# Altium integrated library Xilinx Virtex-E.IntLib: 288 symbols (part 72 of 73)
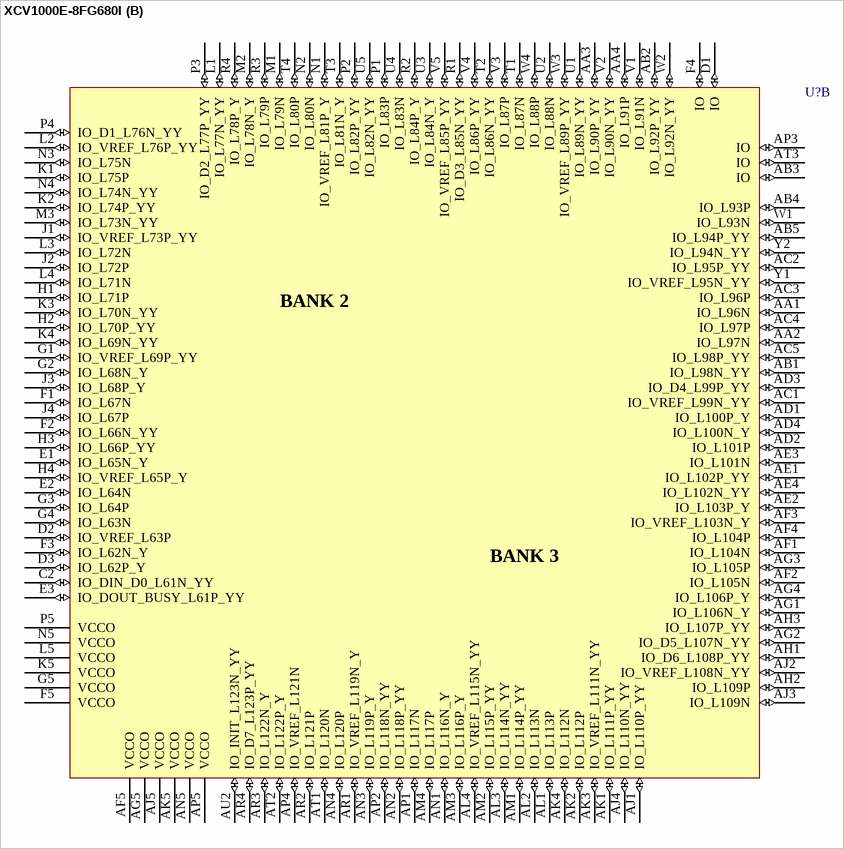
[diagram p456: symbol XCV1000E-8FG680I]

## XCV1600E-8FG1156C
designator U?
Virtex-E 1.8V FPGA, 1156-Ball FBGA, Commercial Grade; PackageDocument: ver1.1, Apr-2001; Note: Solder pads are defined by the copper, i.e. non-soldermask defined (NSMD); Published: 19-Sep-2001; LatestRevisionDate: 17-Jul-2002; LatestRevisionNote: Re-released for DXP Platform.; DatasheetDocument: Mar-2003; PackageReference: FG1156; Publisher: Altium Limited; Code_JEDEC: MS-034-AAR; Code_IPC: PBGA 35X35 FE1156
footprint FG1156 (1156-Ball Fine Pitch Plastic Ball Grid Array (FG1156))
3D model XCV1600E-FG1156 (1156-Ball Fine Pitch Plastic Ball Grid Array (FG1156))
signal-integrity model XCV1600E_FG1156 (Virtex-E)
part A pins: A4 IO_L3N_Y (io), A5 IO_L6N_YY (io), A6 VCCO_0 (power), A8 IO_L15N (io), A9 IO_L17P_YY (io), A10 IO_L18P_Y (io), A11 IO_L21N_YY (io), A12 IO_L24P_Y (io), A13 IO_VREF_L27N_YY (io), A14 IO_L31N (io), A15 IO_L36N_Y (io), A16 IO_L37P (io), A17 IO_L40P_Y (io), B4 IO (io), B5 IO_L7P_Y (io), B6 IO_L9N (io), B7 IO_L11P_YY (io), B8 IO_L13P_Y (io), B9 IO (io), B10 IO (io), B11 IO_L21P_YY (io), B12 IO_L25N_Y (io), B13 IO_L27P_YY (io), B14 IO_L32P_YY (io), B15 IO_L35P_Y (io), B16 IO_L39P_YY (io), B17 IO_L41P_Y (io), C5 IO_L1N_Y (io), C6 IO_L4N_YY (io), C7 IO_L10P_YY (io), C8 IO_L12P (io), C9 IO_L16N_YY (io), C10 IO_L19P_Y (io), C12 IO_L23P_Y (io), C13 IO_L29N_Y (io), C14 VCCO_0 (power), C16 IO_VREF_L39N_YY (io), C17 IO_LVDS_DLL_L42N (io), D6 IO_L2P_Y (io), D7 IO_L7N_Y (io), D8 IO_VREF_L11N_YY (io), D9 NC, D10 IO_VREF_L17N_YY (io), D11 IO_L22P_Y (io), D12 IO_L26N_YY (io), D13 IO_L30P_Y (io), D14 IO_L33P_YY (io), D15 IO_L34P (io), D16 IO (io), E6 IO_VREF_L2N_Y (io), E7 NC, E8 IO_L8P_Y (io), E9 IO_L13N_Y (io), E10 VCCO_0 (power), E11 NC, E12 IO_L22N_Y (io), E13 NC, E14 IO_L32N_YY (io), E15 IO_L36P_Y (io), E16 NC, E17 GCK3 (in), F7 IO_L0N_Y (io), F8 IO_L5P_YY (io), F9 IO_L9P (io), F10 IO_L15P (io), F11 IO_L18N_Y (io), F13 IO_L26P_YY (io), F14 IO_L29P_Y (io), F15 IO_L35N_Y (io), F16 IO_L38N_YY (io), F17 NC, G8 IO_L3P_Y (io), G9 IO_VREF_L5N_YY (io), G10 IO_L10N_YY (io), G11 IO_L14P_Y (io), G12 IO_L20P_YY (io), G13 IO_L23N_Y (io), G14 IO_L28P_YY (io), G15 IO_VREF_L33N_YY (io), G16 IO_L37N (io), G17 IO_VREF_L41N_Y (io), H9 IO_L0P_Y (io), H10 IO_L6P_YY (io), H11 IO_L12N (io), H12 IO_L16P_YY (io), H13 IO_VREF_L20N_YY (io), H14 IO_L25P_Y (io), H15 IO_L30N_Y (io), H17 IO_L40N_Y (io), J10 IO_L1P_Y (io), J11 IO_L4P_YY (io), J12 NC, J13 NC, J14 NC, J15 IO_L28N_YY (io), J16 IO_L34N (io), J17 IO_L38P_YY (io), K11 NC, K12 IO_L8N_Y (io), K13 IO_L14N_Y (io), K14 IO_L19N_Y (io), K15 IO_L24N_Y (io), K16 IO_L31P (io), L12 VCCO_0 (power), L13 VCCO_0 (power), L14 VCCO_0 (power), L15 VCCO_0 (power), L16 VCCO_0 (power), L17 VCCO_0 (power), M13 VCCO_0 (power), M14 VCCO_0 (power), M15 VCCO_0 (power), M16 VCCO_0 (power), M17 VCCO_0 (power)
part B pins: A18 IO (io), A19 IO_VREF_L45P_YY (io), A20 IO_L49N_Y (io), A21 IO_L52P_YY (io), A22 IO_L57N_YY (io), A23 IO_L60P_Y (io), A24 IO_L64N_YY (io), A25 IO_L66N_Y (io), A26 IO_L67N_YY (io), A27 IO_L71P_Y (io), A29 VCCO_1 (power), A30 IO_L79N_YY (io), A31 IO_WRITE_L85N_YY (io), B18 NC, B19 IO_L45N_YY (io), B20 IO_L50N (io), B21 IO_L55N_Y (io), B22 IO_VREF_L57P_YY (io), B23 IO_L61P_Y (io), B24 IO (io), B25 IO (io), B26 IO_L68P_YY (io), B27 IO_L72N (io), B28 IO_L74P_YY (io), B29 IO_L80P_YY (io), B30 IO_L83P_Y (io), B31 IO_L84N (io), C18 IO_VREF_L43P_Y (io), C19 IO_L46P_YY (io), C21 VCCO_1 (power), C22 IO_L58P_YY (io), C23 IO_L62N_Y (io), C25 IO_VREF_L67P_YY (io), C26 IO_L70N_Y (io), C27 IO_VREF_L73P_YY (io), C28 IO_L77P_Y (io), C29 IO_L81P_Y (io), D17 GCK2 (in), D18 NC, D19 IO (io), D20 IO_L51N_YY (io), D21 IO_L54N_Y (io), D22 IO_L59N_Y (io), D23 IO_L63N_YY (io), D24 IO_L65P_Y (io), D25 NC, D26 NC, D27 IO_L76N_Y (io), D28 NC, D29 NC, D30 IO_CS_L85P_YY (io), E19 IO_L47P (io), E20 IO_VREF_L51P_YY (io), E21 IO_L53N (io), E22 NC, E23 NC, E24 IO_L66P_Y (io), E25 VCCO_1 (power), E26 IO_L73N_YY (io), E27 IO_L78N_YY (io), E28 IO_L82N_Y (io), E29 IO_L84P (io), F18 IO_L44P_Y (io), F19 IO_L47N (io), F20 IO_L50P (io), F21 IO_L56P_YY (io), F22 IO_L61N_Y (io), F24 IO_L68N_YY (io), F25 IO_L69P (io), F26 IO_L76P_Y (io), F27 IO_L81N_Y (io), F28 IO_VREF_L82P_Y (io), G18 IO_L43N_Y (io), G19 IO_L48N_Y (io), G20 IO_L49P_Y (io), G21 IO_L56N_YY (io), G22 IO_L59P_Y (io), G23 NC, G24 IO_L71N_Y (io), G25 IO_L72P (io), G26 IO_L77N_Y (io), G27 IO_L80N_YY (io), H18 IO_L44N_Y (io), H20 IO_L52N_YY (io), H21 IO_L55P_Y (io), H22 IO_L62P_Y (io), H23 IO_L65N_Y (io), H24 IO_L70P_Y (io), H25 IO_L75P (io), H26 IO_VREF_L79P_YY (io), J18 IO_LVDS_DLL_L42P (io), J19 IO_L48P_Y (io), J20 IO_L53P (io), J21 IO_L58N_YY (io), J22 IO_VREF_L64P_YY (io), J23 NC, J24 IO_L74N_YY (io), J25 IO_L78P_YY (io), K19 IO_L46N_YY (io), K20 IO_L54P_Y (io), K21 IO_L60N_Y (io), K22 IO_L63P_YY (io), K23 IO_L69N (io), K24 IO_L75N (io), L18 VCCO_1 (power), L19 VCCO_1 (power), L20 VCCO_1 (power), L21 VCCO_1 (power), L22 VCCO_1 (power), L23 VCCO_1 (power), L25 IO_L83N_Y (io), M18 VCCO_1 (power), M19 VCCO_1 (power), M20 VCCO_1 (power), M21 VCCO_1 (power), M22 VCCO_1 (power)
part C pins: D32 IO_DOUT_BUSY_L86P_YY (io), D33 IO_L91N_Y (io), D34 IO_VREF_L92P_Y (io), E31 IO_L87P_Y (io), E32 IO_VREF_L89P_Y (io), E33 IO_L93N_YY (io), E34 IO_L97N_Y (io), F30 IO_L87N_Y (io), F31 NC, F32 IO_L88N_Y (io), F33 IO_L96N_Y (io), F34 VCCO_2 (power), G29 IO_L88P_Y (io), G30 IO_L89N_Y (io), G31 IO_L90N (io), G32 IO_L98N_YY (io), G33 IO_L100N_YY (io), H28 IO_L94P_YY (io), H29 IO_L92N_Y (io), H30 IO_L94N_YY (io), H31 IO_VREF_L98P_YY (io), H32 IO_L95P_Y (io), H33 IO_L102N (io), H34 IO_L101P_Y (io), J27 IO_DIN_D0_L86N_YY (io), J28 IO_L93P_YY (io), J29 IO_L101N_Y (io), J30 IO_L100P_YY (io), J31 IO_L99N_YY (io), J32 IO (io), J33 IO_L104N_YY (io), J34 IO_L103N_Y (io), K27 NC, K28 IO_L95N_Y (io), K29 IO_L103P_Y (io), K30 VCCO_2 (power), K31 NC, K33 IO_VREF_L107P_YY (io), K34 IO_L105N_YY (io), L26 IO_L91P_Y (io), L27 IO_L96P_Y (io), L28 NC, L29 IO_VREF_L104P_YY (io), L30 NC, L31 IO_L109P_Y (io), L33 IO_L109N_Y (io), L34 IO_L106N_Y (io), M24 VCCO_2 (power), M25 IO_L90P (io), M26 IO_L97P_Y (io), M27 IO_L102P (io), M28 IO_L105P_YY (io), M30 IO_D2 (io), M31 IO_L111P (io), M32 NC, M33 IO_L110N_Y (io), M34 IO_L108N_Y (io), N23 VCCO_2 (power), N24 VCCO_2 (power), N25 IO_L99P_YY (io), N26 IO (io), N27 IO_L106P_Y (io), N28 NC, N29 IO_VREF_L113P_Y (io), N30 IO_L112P_Y (io), N31 IO_VREF_L119P_YY (io), N32 IO_D3_L119N_YY (io), N33 IO_L113N_Y (io), N34 IO_L114N_YY (io), P23 VCCO_2 (power), P24 VCCO_2 (power), P25 NC, P26 IO_D1_L107N_YY (io), P27 IO_L110P_Y (io), P28 IO_L112N_Y (io), P29 IO_L116P_Y (io), P30 IO_L120P_YY (io), P31 IO_L116N_Y (io), P32 VCCO_2 (power), P33 IO_L117P_Y (io), P34 IO_L115P_YY (io), R23 VCCO_2 (power), R24 VCCO_2 (power), R25 IO_L108P_Y (io), R26 IO_L111N (io), R27 IO_L115N_YY (io), R28 IO_L118N_Y (io), R29 IO_L121P_YY (io), R30 IO_L122P_Y (io), R31 IO_L123N (io), R33 IO_L120N_YY (io), R34 IO_L118P_Y (io), T23 VCCO_2 (power), T24 VCCO_2 (power), T25 IO_L114P_YY (io), T26 IO_L117N_Y (io), T28 IO_L123P (io), T29 IO_L124P_Y (io), T30 IO_L122N_Y (io), T31 IO_VREF_L125P_YY (io), T32 IO_L126N_YY (io), T33 IO_L125N_YY (io), T34 IO_L121N_YY (io), U23 VCCO_2 (power), U24 VCCO_2 (power), U26 NC, U27 IO_L124N_Y (io), U28 IO_L126P_YY (io), U29 IO_VREF_L127P_Y (io), U30 IO (io), U31 IO_L128N_YY (io), U32 NC, U33 IO_L127N_Y (io), U34 IO (io), V33 IO_L128P_YY (io)
part D pins: AA23 VCCO_3 (power), AA24 VCCO_3 (power), AA25 IO_L151P_Y (io), AA26 IO_L147P_Y (io), AA27 IO_L142P_YY (io), AA28 IO_L144P_Y (io), AA29 IO_L142N_YY (io), AA30 IO_L140P_Y (io), AA31 IO_L141N_YY (io), AA32 VCCO_3 (power), AA33 IO_D4_L137P_YY (io), AA34 IO_L136P_YY (io), AB23 VCCO_3 (power), AB24 VCCO_3 (power), AB25 NC, AB26 NC, AB27 IO_D5_L149N_YY (io), AB28 IO_L148N_Y (io), AB29 IO_VREF_L143N_Y (io), AB30 IO_L146P_Y (io), AB31 NC, AB32 IO_L143P_Y (io), AB33 IO_L139N_Y (io), AB34 IO_L138N_Y (io), AC24 VCCO_3 (power), AC25 IO_L160P_Y (io), AC26 IO_L158P_YY (io), AC27 IO_L155P_Y (io), AC28 IO_L154P_Y (io), AC30 IO_VREF_L150N_YY (io), AC31 NC, AC32 IO_L147N_Y (io), AC33 IO_L146N_Y (io), AC34 IO_L144N_Y (io), AD25 IO_L164P_YY (io), AD26 IO_L159P_YY (io), AD27 IO_L162N_Y (io), AD28 IO_L156N_Y (io), AD29 IO_L152N_YY (io), AD30 IO_L157P_YY (io), AD31 IO_L153P_YY (io), AD33 IO_L148P_Y (io), AD34 IO_L145N (io), AE26 IO_L166P_Y (io), AE27 IO_L164N_YY (io), AE28 IO_L161P_Y (io), AE29 IO_L156P_Y (io), AE30 VCCO_3 (power), AE31 IO_L152P_YY (io), AE32 IO_L151N_Y (io), AE33 IO_D6_L150P_YY (io), AE34 IO_L149P_YY (io), AF27 IO_VREF_L168N_Y (io), AF28 IO_L167P (io), AF29 IO_L163P_YY (io), AF30 IO_VREF_L159N_YY (io), AF31 IO_L154N_Y (io), AF32 IO_L155N_Y (io), AF33 IO_VREF_L153N_YY (io), AF34 IO (io), AG29 IO_L169P_Y (io), AG30 IO_L162P_Y (io), AG31 NC, AG32 IO_L157N_YY (io), AG33 NC, AG34 IO (io), AH29 NC, AH30 IO_L170N_Y (io), AH31 IO_VREF_L165N_Y (io), AH32 IO_L160N_Y (io), AH33 IO_L158N_YY (io), AJ30 NC, AJ31 IO_L168P_Y (io), AJ32 IO_L169N_Y (io), AJ33 IO_L165P_Y (io), AJ34 VCCO_3 (power), AK31 IO_INIT_L171N_YY (io), AK32 IO_D7_L171P_YY (io), AK33 IO_L170P_Y (io), AK34 IO_L163N_YY (io), AL32 IO_L167N (io), AL33 IO_L166N_Y (io), AL34 IO_L161N_Y (io), V23 VCCO_3 (power), V24 VCCO_3 (power), V26 IO_L129P_Y (io), V27 NC, V28 IO_L130N_YY (io), V29 IO_L132P_Y (io), V30 IO_VREF_L129N_Y (io), V31 IO (io), V32 NC, V34 IO (io), W23 VCCO_3 (power), W24 VCCO_3 (power), W25 IO_L138P_Y (io), W26 IO_L134P_Y (io), W28 IO_L134N_Y (io), W29 IO_L133P (io), W30 IO_VREF_L131N_YY (io), W31 IO_L136N_YY (io), W32 IO_L131P_YY (io), W33 IO (io), W34 IO_L130P_YY (io), Y23 VCCO_3 (power), Y24 VCCO_3 (power), Y25 IO_L145P (io), Y26 IO_L140N_Y (io), Y27 IO_L141P_YY (io), Y28 IO_L139P_Y (io), Y29 IO_VREF_L137N_YY (io), Y30 IO_L135N_YY (io), Y31 IO_L135P_YY (io), Y33 IO_L133N (io), Y34 IO_L132N_Y (io)
part E pins: AC18 VCCO_4 (power), AC19 VCCO_4 (power), AC20 VCCO_4 (power), AC21 VCCO_4 (power), AC22 VCCO_4 (power), AD18 VCCO_4 (power), AD19 VCCO_4 (power), AD20 VCCO_4 (power), AD21 VCCO_4 (power), AD22 VCCO_4 (power), AD23 VCCO_4 (power), AE19 IO_VREF_L206P_YY (io), AE20 IO_L202N_Y (io), AE21 NC, AE22 IO_L191P_Y (io), AE23 IO_L185P (io), AE24 IO_L179P_YY (io), AF18 IO_L213P_Y (io), AF19 IO_L210P (io), AF20 IO_L204N (io), AF21 IO_L198N_Y (io), AF22 IO_VREF_L193P_YY (io), AF23 IO_L189P_YY (io), AF24 IO_L182N (io), AF25 IO_L177P_YY (io), AG18 IO (io), AG20 IO_L207P_Y (io), AG21 IO_L201P_YY (io), AG22 IO_L195P_Y (io), AG23 IO (io), AG24 IO_L188P (io), AG25 IO_L181P_Y (io), AG26 IO_L176P_Y (io), AH18 GCK0 (in), AH19 IO_L211N_YY (io), AH20 IO_L208P_Y (io), AH21 IO_L203P_Y (io), AH22 IO_L197P_Y (io), AH23 IO_L192N_Y (io), AH24 NC, AH25 NC, AH26 IO_L180N_Y (io), AH27 IO_L174P_Y (io), AJ18 IO_VREF_L214P_Y (io), AJ19 IO_VREF_L212P_YY (io), AJ20 IO_L209N_Y (io), AJ21 IO_L201N_YY (io), AJ22 IO_L199N_YY (io), AJ24 IO_VREF_L190P_YY (io), AJ25 IO_L187N_Y (io), AJ26 IO_L183P_YY (io), AJ27 IO_L180P_Y (io), AJ28 NC, AK18 NC, AK19 NC, AK20 IO_L208N_Y (io), AK21 IO_L205P_YY (io), AK22 IO_VREF_L200P_YY (io), AK23 IO_L194N_YY (io), AK24 IO_L192P_Y (io), AK25 VCCO_4 (power), AK26 IO_VREF_L184P_YY (io), AK27 IO_L181N_Y (io), AK28 IO_L175N_Y (io), AK29 IO_L172N_YY (io), AL18 IO_L214N_Y (io), AL20 IO_L207N_Y (io), AL21 IO_L203N_Y (io), AL22 IO_L199P_YY (io), AL23 IO_L198P_Y (io), AL24 IO_L194P_YY (io), AL25 IO (io), AL26 IO_L186P_Y (io), AL27 NC, AL28 IO_L178N_YY (io), AL29 IO_VREF_L178P_YY (io), AL30 NC, AM18 IO_LVDS_DLL_L215P (io), AM19 IO_L211P_YY (io), AM21 VCCO_4 (power), AM22 IO_L200N_YY (io), AM23 IO_L196N_Y (io), AM25 IO_L191N_Y (io), AM26 IO_L189N_YY (io), AM27 IO_L185N (io), AM28 IO_L182P (io), AM29 IO_L177N_YY (io), AM30 IO_VREF_L175P_Y (io), AN18 IO (io), AN19 IO_L209P_Y (io), AN20 IO_L206N_YY (io), AN21 IO_L204P (io), AN22 NC, AN23 IO_L195N_Y (io), AN24 NC, AN25 IO_L190N_YY (io), AN26 IO_L187P_Y (io), AN27 IO_L184N_YY (io), AN28 IO_L179N_YY (io), AN29 IO_L176N_Y (io), AN30 IO_L174N_Y (io), AN31 IO_L173N_Y (io), AP17 IO_L213N_Y (io), AP18 IO_L212N_YY (io), AP19 IO_L210N (io), AP20 IO_L205N_YY (io), AP21 IO_L202P_Y (io), AP22 IO_L197N_Y (io), AP23 IO_L196P_Y (io), AP24 IO_L193N_YY (io), AP25 IO_L188N (io), AP26 IO_L186N_Y (io), AP27 IO_L183N_YY (io), AP29 VCCO_4 (power), AP30 IO_L173P_Y (io), AP31 IO_L172P_YY (io)
part F pins: AC13 VCCO_5 (power), AC14 VCCO_5 (power), AC15 VCCO_5 (power), AC16 VCCO_5 (power), AC17 VCCO_5 (power), AD12 VCCO_5 (power), AD13 VCCO_5 (power), AD14 VCCO_5 (power), AD15 VCCO_5 (power), AD16 VCCO_5 (power), AD17 VCCO_5 (power), AE11 IO_L253P_YY (io), AE12 IO_L248P (io), AE13 IO_L241P_YY (io), AE14 IO_L229P_YY (io), AE15 IO_L229N_YY (io), AE16 IO_L223N_Y (io), AF10 IO_L254P_Y (io), AF11 IO_L244P_Y (io), AF12 IO_L242P (io), AF13 IO_L233P_Y (io), AF14 IO_L234P_Y (io), AF15 IO_L227N_Y (io), AF16 IO_L222N_Y (io), AF17 NC, AG9 IO_VREF_L255N_Y (io), AG10 IO_L250P_Y (io), AG11 IO_L245N_Y (io), AG12 NC, AG13 IO_VREF_L230N_YY (io), AG14 IO_L228P_Y (io), AG15 IO_L226N (io), AG17 IO_L217N_Y (io), AH8 IO_L256P_Y (io), AH9 IO_L251N_YY (io), AH10 IO_L247P_YY (io), AH11 IO_L243N_Y (io), AH12 IO (io), AH13 IO_L235N_Y (io), AH14 IO_L231P_YY (io), AH15 IO_L225P_YY (io), AH16 IO_L221N_Y (io), AH17 IO_L216P_Y (io), AJ7 IO_L257N_Y (io), AJ8 IO_VREF_L252N_YY (io), AJ9 IO_L248N (io), AJ10 NC, AJ11 NC, AJ13 IO_L237P_YY (io), AJ14 IO_L232P_Y (io), AJ15 IO_VREF_L224N_YY (io), AJ16 IO_L219P_YY (io), AJ17 IO_L217P_Y (io), AK6 IO_L258N_YY (io), AK7 NC, AK8 IO_L251P_YY (io), AK9 IO_VREF_L246N_YY (io), AK10 VCCO_5 (power), AK11 IO_L239N_Y (io), AK12 IO_L238P_Y (io), AK13 NC, AK14 IO_L226P (io), AK15 IO_L224P_YY (io), AK16 IO_L220P (io), AL6 IO_L255P_Y (io), AL7 IO_L249N_Y (io), AL8 IO_L246P_YY (io), AL9 IO_L243P_Y (io), AL10 IO_VREF_L240N_YY (io), AL11 IO_L240P_YY (io), AL12 IO_L236N_YY (io), AL13 NC, AL14 IO_L232N_Y (io), AL15 IO_L221P_Y (io), AL16 IO_VREF_L218N_YY (io), AL17 IO_LVDS_DLL_L215N (io), AL19 GCK1 (in), AM4 NC, AM5 IO_L258P_YY (io), AM6 IO_L254N_Y (io), AM7 IO_L249P_Y (io), AM8 IO_L245P_Y (io), AM9 IO_L241N_YY (io), AM10 IO_L238N_Y (io), AM12 IO_L236P_YY (io), AM13 IO_L227P_Y (io), AM14 VCCO_5 (power), AM16 IO_L219N_YY (io), AM17 IO_VREF_L216N_Y (io), AN4 IO_L257P_Y (io), AN5 IO_L253N_YY (io), AN6 IO_L250N_Y (io), AN7 IO_L247N_YY (io), AN8 IO_L244N_Y (io), AN9 IO (io), AN10 NC, AN11 IO_L235P_Y (io), AN12 IO_L233N_Y (io), AN13 IO_L230P_YY (io), AN14 IO_L225N_YY (io), AN15 IO_L222P_Y (io), AN16 IO (io), AN17 NC, AP4 IO_L256N_Y (io), AP5 IO_L252P_YY (io), AP6 VCCO_5 (power), AP8 IO_L242N (io), AP9 IO_L239P_Y (io), AP10 IO_VREF_L237N_YY (io), AP11 IO_L234N_Y (io), AP12 IO_L231N_YY (io), AP13 IO_L228N_Y (io), AP14 IO_L223P_Y (io), AP15 IO_L220N (io), AP16 IO_L218P_YY (io)
part G pins: AA1 IO_L287P_Y (io), AA2 IO_L289N_YY (io), AA3 VCCO_6 (power), AA4 IO_VREF_L287N_Y (io), AA5 IO_L290P_Y (io), AA6 IO_L290N_Y (io), AA7 IO_L286P_Y (io), AA8 IO_L284N_Y (io), AA9 IO_L282N_Y (io), AA10 NC, AA11 VCCO_6 (power), AA12 VCCO_6 (power), AB1 IO_L285N (io), AB2 IO_L286N_Y (io), AB3 IO_L291N_Y (io), AB4 IO_L288P_YY (io), AB5 NC, AB6 IO_L284P_Y (io), AB7 NC, AB8 IO_VREF_L280N_YY (io), AB9 NC, AB10 IO_L275N (io), AB11 VCCO_6 (power), AB12 VCCO_6 (power), AC1 IO_L280P_YY (io), AC2 IO_L281P_YY (io), AC3 IO_L282P_Y (io), AC4 IO_L283N_Y (io), AC5 IO_L281N_YY (io), AC7 IO_L278N_YY (io), AC8 IO_L276N_Y (io), AC9 IO_L272N_YY (io), AC10 IO_L267N_YY (io), AC11 VCCO_6 (power), AD1 IO_L278P_YY (io), AD2 IO_L279P_Y (io), AD4 IO_L283P_Y (io), AD5 IO_VREF_L277N_YY (io), AD6 IO_L279N_Y (io), AD7 NC, AD8 NC, AD9 IO_L266N_YY (io), AD10 IO_L261N_Y (io), AE1 IO_L276P_Y (io), AE2 IO (io), AE3 IO_L277P_YY (io), AE4 IO (io), AE5 VCCO_6 (power), AE6 IO_L273N_YY (io), AE7 IO_L270N_Y (io), AE8 IO_L269N_Y (io), AE9 IO_L260N_Y (io), AF1 IO_L274N_Y (io), AF2 IO_L275P (io), AF3 IO_L273P_YY (io), AF4 IO_L274P_Y (io), AF5 IO_L268P_Y (io), AF6 IO_VREF_L271N_YY (io), AF7 IO_L264N_Y (io), AF8 IO_L259P_YY (io), AG1 IO_L271P_YY (io), AG2 IO_L270P_Y (io), AG3 IO_L269P_Y (io), AG4 IO_L272P_YY (io), AG5 IO_L265P_Y (io), AG6 IO_L263N (io), AH2 IO_L267P_YY (io), AH3 IO_L268N_Y (io), AH4 IO_L262P_Y (io), AH5 NC, AH6 IO_L259N_YY (io), AJ1 VCCO_6 (power), AJ2 IO_L266P_YY (io), AJ3 IO_VREF_L265N_Y (io), AJ4 NC, AK1 IO_L263P (io), AK2 IO_L264P_Y (io), AK3 IO_L260P_Y (io), AL1 IO_VREF_L262N_Y (io), AL2 IO_L261P_Y (io), T1 IO (io), U1 IO_L301P_Y (io), U2 IO_L300P_YY (io), V1 IO_L299P_YY (io), V2 IO (io), V3 IO (io), V5 NC, V6 IO_VREF_L301N_Y (io), V7 IO_L300N_YY (io), V8 NC, V9 IO_L298N_Y (io), V11 VCCO_6 (power), V12 VCCO_6 (power), W1 IO_L296N_Y (io), W2 IO_L294P_YY (io), W3 IO_L297P_Y (io), W4 IO_L298P_Y (io), W5 IO_VREF_L299N_YY (io), W6 IO_L297N_Y (io), W7 IO_L295N_YY (io), W9 IO_L294N_YY (io), W10 IO_L292P_Y (io), W11 VCCO_6 (power), W12 VCCO_6 (power), Y1 IO_L292N_Y (io), Y2 IO_L293P_YY (io), Y4 IO_L295P_YY (io), Y5 IO_VREF_L293N_YY (io), Y6 IO_L296P_Y (io), Y7 IO_L291P_Y (io), Y8 IO_L289P_YY (io), Y9 IO_L288N_YY (io), Y10 IO_L285P (io), Y11 VCCO_6 (power), Y12 VCCO_6 (power)
part H pins: D1 IO_L340P (io), D2 IO_L342P_Y (io), D3 IO_L343P_Y (io), E1 IO_L338N_Y (io), E2 IO_L339P_Y (io), E3 IO_L341N_Y (io), E4 IO_L342N_Y (io), F1 VCCO_7 (power), F2 IO_L336P_YY (io), F3 IO_L337N_YY (io), F4 IO_L343N_Y (io), F5 IO (io), G2 IO_L330P_YY (io), G3 IO_L332N_YY (io), G4 IO_L335N_Y (io), G5 IO_L339N_Y (io), G6 NC, H1 IO (io), H2 IO_L328P_Y (io), H3 IO_L331N_YY (io), H4 IO_L334P_Y (io), H5 IO_L333P_Y (io), H6 IO_VREF_L338P_Y_Y (io), H7 NC, J1 IO_L325N_YY (io), J2 IO_L326N_YY (io), J3 IO_L327P_Y (io), J4 IO_L329N_Y (io), J5 IO_VREF_L332P_YY (io), J6 IO_L334N_Y (io), J7 IO_L336N_YY (io), J8 IO_VREF_L341P_Y (io), K1 IO_VREF_L323P_YY (io), K2 NC, K3 IO_VREF_L326P_YY (io), K4 NC, K5 VCCO_7 (power), K6 IO_L329P_Y (io), K7 IO_L331P_YY (io), K8 IO_L335P_Y (io), K9 IO_L340N (io), L1 IO_L321N_Y (io), L2 IO_L322N_YY (io), L4 IO_L324P_Y (io), L5 IO_L325P_YY (io), L6 NC, L7 IO_L327N_Y (io), L8 IO_L330N_YY (io), L9 IO_L333N_Y (io), L10 IO_L337P_YY (io), M1 IO_L316N_Y (io), M2 IO_L318P (io), M3 IO_L319P_Y (io), M4 IO_L320P_Y (io), M5 NC, M7 IO_L323N_YY (io), M8 IO_L324N_Y (io), M9 IO_L328N_Y (io), M10 NC, M11 VCCO_7 (power), N1 IO_L312P_Y (io), N2 IO_L314P_YY (io), N3 IO_L317P_Y (io), N4 IO_VREF_L316P_Y (io), N5 NC, N6 IO_L317N_Y (io), N7 IO_L319N_Y (io), N8 IO_L321P_Y (io), N9 IO_L322P_YY (io), N10 IO (io), N11 VCCO_7 (power), N12 VCCO_7 (power), P1 IO_L310N_YY (io), P2 IO_L311P_Y (io), P3 VCCO_7 (power), P4 IO_L313N_Y (io), P5 IO_VREF_L310P_YY (io), P6 IO_L315N_YY (io), P7 IO_L315P_YY (io), P8 IO_L314N_YY (io), P9 IO_L318N (io), P10 IO_L320N_Y (io), P11 VCCO_7 (power), P12 VCCO_7 (power), R1 IO_L307P_Y (io), R2 IO_L309N_YY (io), R5 IO_L309P_YY (io), R6 IO_L308N_Y (io), R7 IO (io), R8 IO_L311N_Y (io), R9 IO_L312N_Y (io), R10 IO_L313P_Y (io), R11 VCCO_7 (power), R12 VCCO_7 (power), T2 IO (io), T3 IO_L305N_YY (io), T4 IO_L306P_Y (io), T5 IO_L307N_Y (io), T6 IO_VREF_L305P_YY (io), T7 NC, T9 IO_L306N_Y (io), T10 IO_L308P_Y (io), T11 VCCO_7 (power), T12 VCCO_7 (power), U3 IO_L304N_YY (io), U4 IO_L302P_YY (io), U5 IO_VREF_L303P_Y (io), U6 IO_L304P_YY (io), U7 IO_L303N_Y (io), U8 IO (io), U9 IO_L302N_YY (io), U11 VCCO_7 (power), U12 VCCO_7 (power), V4 NC
part I pins: A3 GND (power), A28 GND (power), A32 GND (power), A33 GND (power), AA13 VCCINT (power), AA14 GND (power), AA19 GND (power), AA22 VCCINT (power), AB13 VCCINT (power), AB14 VCCINT (power), AB15 VCCINT (power), AB16 VCCINT (power), AB19 VCCINT (power), AB20 VCCINT (power), AB21 VCCINT (power), AB22 VCCINT (power), AC12 VCCINT (power), AC23 VCCINT (power), AC29 GND (power), AD3 GND (power), AD11 VCCINT (power), AD24 VCCINT (power), AE10 VCCINT (power), AE17 VCCINT (power), AE18 VCCINT (power), AE25 VCCINT (power), AG7 M1 (in), AG8 GND (power), AG16 GND (power), AG28 PROGRAM (in), AH7 GND (power), AJ5 DXN, AJ6 GND (power), AJ12 GND (power), AK4 M0 (in), AK30 GND (power), AL3 M2 (in), AL5 DXP, AL31 GND (power), AM3 GND (power), AM20 GND (power), AM24 GND (power), AM31 DONE (io), AM32 GND (power), AN3 GND (power), AN32 GND (power), AN33 GND (power), AP2 GND (power), AP3 GND (power), AP7 GND (power), AP34 GND (power), B3 GND (power), B32 GND (power), C1 GND (power), C4 TMS (in), C11 GND (power), C15 GND (power), C30 TDI (in), C31 CCLK (io), C34 GND (power), D5 TCK (in), E5 GND (power), F6 GND (power), F29 GND (power), H19 GND (power), H27 GND (power), J26 GND (power), K10 VCCINT (power), K17 VCCINT (power), K18 VCCINT (power), K25 VCCINT (power), K26 TDO (out), L11 VCCINT (power), L24 VCCINT (power), M6 GND (power), M12 VCCINT (power), M23 VCCINT (power), N13 VCCINT (power), N14 VCCINT (power), N15 VCCINT (power), N16 VCCINT (power), N19 VCCINT (power), N20 VCCINT (power), N21 VCCINT (power), N22 VCCINT (power), P13 VCCINT (power), P15 GND (power), P18 GND (power), P21 GND (power), P22 VCCINT (power), R3 GND (power), R13 VCCINT (power), R15 GND (power), R18 GND (power), R21 GND (power), R22 VCCINT (power), R32 GND (power), T8 GND (power), T13 VCCINT (power), T14 GND (power), T16 GND (power), T19 GND (power), T22 VCCINT (power), T27 GND (power), U10 VCCINT (power), U14 GND (power), U16 GND (power), U19 GND (power), U25 VCCINT (power), V10 VCCINT (power), V15 GND (power), V18 GND (power), V21 GND (power), V25 VCCINT (power), W8 GND (power), W13 VCCINT (power), W18 GND (power), W21 GND (power), W22 VCCINT (power), W27 GND (power), Y3 GND (power), Y13 VCCINT (power), Y14 GND (power), Y19 GND (power), Y22 VCCINT (power), Y32 GND (power)
part J pins: A1 GND (power), A2 GND (power), A7 GND (power), A34 GND (power), AA15 GND (power), AA16 GND (power), AA17 GND (power), AA18 GND (power), AA20 GND (power), AA21 GND (power), AB17 GND (power), AB18 GND (power), AC6 GND (power), AD32 GND (power), AF9 GND (power), AF26 GND (power), AG19 GND (power), AG27 GND (power), AH1 GND (power), AH28 GND (power), AH34 GND (power), AJ23 GND (power), AJ29 GND (power), AK5 GND (power), AK17 GND (power), AL4 GND (power), AM1 GND (power), AM2 GND (power), AM11 GND (power), AM15 GND (power), AM33 GND (power), AM34 GND (power), AN1 GND (power), AN2 GND (power), AN34 GND (power), AP1 GND (power), AP28 GND (power), AP32 GND (power), AP33 GND (power), B1 GND (power), B2 GND (power), B33 GND (power), B34 GND (power), C2 GND (power), C3 GND (power), C20 GND (power), C24 GND (power), C32 GND (power), C33 GND (power), D4 GND (power), D31 GND (power), E18 GND (power), E30 GND (power), F12 GND (power), F23 GND (power), G1 GND (power), G7 GND (power), G28 GND (power), G34 GND (power), H8 GND (power), H16 GND (power), J9 GND (power), K32 GND (power), L3 GND (power), L32 GND (power), M29 GND (power), N17 GND (power), N18 GND (power), P14 GND (power), P16 GND (power), P17 GND (power), P19 GND (power), P20 GND (power), R4 GND (power), R14 GND (power), R16 GND (power), R17 GND (power), R19 GND (power), R20 GND (power), T15 GND (power), T17 GND (power), T18 GND (power), T20 GND (power), T21 GND (power), U13 GND (power), U15 GND (power), U17 GND (power), U18 GND (power), U20 GND (power), U21 GND (power), U22 GND (power), V13 GND (power), V14 GND (power), V16 GND (power), V17 GND (power), V19 GND (power), V20 GND (power), V22 GND (power), W14 GND (power), W15 GND (power), W16 GND (power), W17 GND (power), W19 GND (power), W20 GND (power), Y15 GND (power), Y16 GND (power), Y17 GND (power), Y18 GND (power), Y20 GND (power), Y21 GND (power)
part A text: Bank 0
part B text: Bank 1
part C text: Bank 2
part D text: Bank 3
part E text: Bank 4
part F text: Bank 5
part G text: Bank 6
part H text: Bank 7

## XCV1600E-8FG1156I
designator U?
Virtex-E 1.8V FPGA, 1156-Ball FBGA, Industrial Grade; PackageDocument: ver1.1, Apr-2001; Note: Solder pads are defined by the copper, i.e. non-soldermask defined (NSMD); Published: 19-Sep-2001; LatestRevisionDate: 17-Jul-2002; LatestRevisionNote: Re-released for DXP Platform.; DatasheetDocument: Mar-2003; PackageReference: FG1156; Publisher: Altium Limited; Code_JEDEC: MS-034-AAR; Code_IPC: PBGA 35X35 FE1156
footprint FG1156 (1156-Ball Fine Pitch Plastic Ball Grid Array (FG1156))
3D model XCV1600E-FG1156 (1156-Ball Fine Pitch Plastic Ball Grid Array (FG1156))
signal-integrity model XCV1600E_FG1156 (Virtex-E)
part A pins: A4 IO_L3N_Y (io), A5 IO_L6N_YY (io), A6 VCCO_0 (power), A8 IO_L15N (io), A9 IO_L17P_YY (io), A10 IO_L18P_Y (io), A11 IO_L21N_YY (io), A12 IO_L24P_Y (io), A13 IO_VREF_L27N_YY (io), A14 IO_L31N (io), A15 IO_L36N_Y (io), A16 IO_L37P (io), A17 IO_L40P_Y (io), B4 IO (io), B5 IO_L7P_Y (io), B6 IO_L9N (io), B7 IO_L11P_YY (io), B8 IO_L13P_Y (io), B9 IO (io), B10 IO (io), B11 IO_L21P_YY (io), B12 IO_L25N_Y (io), B13 IO_L27P_YY (io), B14 IO_L32P_YY (io), B15 IO_L35P_Y (io), B16 IO_L39P_YY (io), B17 IO_L41P_Y (io), C5 IO_L1N_Y (io), C6 IO_L4N_YY (io), C7 IO_L10P_YY (io), C8 IO_L12P (io), C9 IO_L16N_YY (io), C10 IO_L19P_Y (io), C12 IO_L23P_Y (io), C13 IO_L29N_Y (io), C14 VCCO_0 (power), C16 IO_VREF_L39N_YY (io), C17 IO_LVDS_DLL_L42N (io), D6 IO_L2P_Y (io), D7 IO_L7N_Y (io), D8 IO_VREF_L11N_YY (io), D9 NC, D10 IO_VREF_L17N_YY (io), D11 IO_L22P_Y (io), D12 IO_L26N_YY (io), D13 IO_L30P_Y (io), D14 IO_L33P_YY (io), D15 IO_L34P (io), D16 IO (io), E6 IO_VREF_L2N_Y (io), E7 NC, E8 IO_L8P_Y (io), E9 IO_L13N_Y (io), E10 VCCO_0 (power), E11 NC, E12 IO_L22N_Y (io), E13 NC, E14 IO_L32N_YY (io), E15 IO_L36P_Y (io), E16 NC, E17 GCK3 (in), F7 IO_L0N_Y (io), F8 IO_L5P_YY (io), F9 IO_L9P (io), F10 IO_L15P (io), F11 IO_L18N_Y (io), F13 IO_L26P_YY (io), F14 IO_L29P_Y (io), F15 IO_L35N_Y (io), F16 IO_L38N_YY (io), F17 NC, G8 IO_L3P_Y (io), G9 IO_VREF_L5N_YY (io), G10 IO_L10N_YY (io), G11 IO_L14P_Y (io), G12 IO_L20P_YY (io), G13 IO_L23N_Y (io), G14 IO_L28P_YY (io), G15 IO_VREF_L33N_YY (io), G16 IO_L37N (io), G17 IO_VREF_L41N_Y (io), H9 IO_L0P_Y (io), H10 IO_L6P_YY (io), H11 IO_L12N (io), H12 IO_L16P_YY (io), H13 IO_VREF_L20N_YY (io), H14 IO_L25P_Y (io), H15 IO_L30N_Y (io), H17 IO_L40N_Y (io), J10 IO_L1P_Y (io), J11 IO_L4P_YY (io), J12 NC, J13 NC, J14 NC, J15 IO_L28N_YY (io), J16 IO_L34N (io), J17 IO_L38P_YY (io), K11 NC, K12 IO_L8N_Y (io), K13 IO_L14N_Y (io), K14 IO_L19N_Y (io), K15 IO_L24N_Y (io), K16 IO_L31P (io), L12 VCCO_0 (power), L13 VCCO_0 (power), L14 VCCO_0 (power), L15 VCCO_0 (power), L16 VCCO_0 (power), L17 VCCO_0 (power), M13 VCCO_0 (power), M14 VCCO_0 (power), M15 VCCO_0 (power), M16 VCCO_0 (power), M17 VCCO_0 (power)
part B pins: A18 IO (io), A19 IO_VREF_L45P_YY (io), A20 IO_L49N_Y (io), A21 IO_L52P_YY (io), A22 IO_L57N_YY (io), A23 IO_L60P_Y (io), A24 IO_L64N_YY (io), A25 IO_L66N_Y (io), A26 IO_L67N_YY (io), A27 IO_L71P_Y (io), A29 VCCO_1 (power), A30 IO_L79N_YY (io), A31 IO_WRITE_L85N_YY (io), B18 NC, B19 IO_L45N_YY (io), B20 IO_L50N (io), B21 IO_L55N_Y (io), B22 IO_VREF_L57P_YY (io), B23 IO_L61P_Y (io), B24 IO (io), B25 IO (io), B26 IO_L68P_YY (io), B27 IO_L72N (io), B28 IO_L74P_YY (io), B29 IO_L80P_YY (io), B30 IO_L83P_Y (io), B31 IO_L84N (io), C18 IO_VREF_L43P_Y (io), C19 IO_L46P_YY (io), C21 VCCO_1 (power), C22 IO_L58P_YY (io), C23 IO_L62N_Y (io), C25 IO_VREF_L67P_YY (io), C26 IO_L70N_Y (io), C27 IO_VREF_L73P_YY (io), C28 IO_L77P_Y (io), C29 IO_L81P_Y (io), D17 GCK2 (in), D18 NC, D19 IO (io), D20 IO_L51N_YY (io), D21 IO_L54N_Y (io), D22 IO_L59N_Y (io), D23 IO_L63N_YY (io), D24 IO_L65P_Y (io), D25 NC, D26 NC, D27 IO_L76N_Y (io), D28 NC, D29 NC, D30 IO_CS_L85P_YY (io), E19 IO_L47P (io), E20 IO_VREF_L51P_YY (io), E21 IO_L53N (io), E22 NC, E23 NC, E24 IO_L66P_Y (io), E25 VCCO_1 (power), E26 IO_L73N_YY (io), E27 IO_L78N_YY (io), E28 IO_L82N_Y (io), E29 IO_L84P (io), F18 IO_L44P_Y (io), F19 IO_L47N (io), F20 IO_L50P (io), F21 IO_L56P_YY (io), F22 IO_L61N_Y (io), F24 IO_L68N_YY (io), F25 IO_L69P (io), F26 IO_L76P_Y (io), F27 IO_L81N_Y (io), F28 IO_VREF_L82P_Y (io), G18 IO_L43N_Y (io), G19 IO_L48N_Y (io), G20 IO_L49P_Y (io), G21 IO_L56N_YY (io), G22 IO_L59P_Y (io), G23 NC, G24 IO_L71N_Y (io), G25 IO_L72P (io), G26 IO_L77N_Y (io), G27 IO_L80N_YY (io), H18 IO_L44N_Y (io), H20 IO_L52N_YY (io), H21 IO_L55P_Y (io), H22 IO_L62P_Y (io), H23 IO_L65N_Y (io), H24 IO_L70P_Y (io), H25 IO_L75P (io), H26 IO_VREF_L79P_YY (io), J18 IO_LVDS_DLL_L42P (io), J19 IO_L48P_Y (io), J20 IO_L53P (io), J21 IO_L58N_YY (io), J22 IO_VREF_L64P_YY (io), J23 NC, J24 IO_L74N_YY (io), J25 IO_L78P_YY (io), K19 IO_L46N_YY (io), K20 IO_L54P_Y (io), K21 IO_L60N_Y (io), K22 IO_L63P_YY (io), K23 IO_L69N (io), K24 IO_L75N (io), L18 VCCO_1 (power), L19 VCCO_1 (power), L20 VCCO_1 (power), L21 VCCO_1 (power), L22 VCCO_1 (power), L23 VCCO_1 (power), L25 IO_L83N_Y (io), M18 VCCO_1 (power), M19 VCCO_1 (power), M20 VCCO_1 (power), M21 VCCO_1 (power), M22 VCCO_1 (power)
part C pins: D32 IO_DOUT_BUSY_L86P_YY (io), D33 IO_L91N_Y (io), D34 IO_VREF_L92P_Y (io), E31 IO_L87P_Y (io), E32 IO_VREF_L89P_Y (io), E33 IO_L93N_YY (io), E34 IO_L97N_Y (io), F30 IO_L87N_Y (io), F31 NC, F32 IO_L88N_Y (io), F33 IO_L96N_Y (io), F34 VCCO_2 (power), G29 IO_L88P_Y (io), G30 IO_L89N_Y (io), G31 IO_L90N (io), G32 IO_L98N_YY (io), G33 IO_L100N_YY (io), H28 IO_L94P_YY (io), H29 IO_L92N_Y (io), H30 IO_L94N_YY (io), H31 IO_VREF_L98P_YY (io), H32 IO_L95P_Y (io), H33 IO_L102N (io), H34 IO_L101P_Y (io), J27 IO_DIN_D0_L86N_YY (io), J28 IO_L93P_YY (io), J29 IO_L101N_Y (io), J30 IO_L100P_YY (io), J31 IO_L99N_YY (io), J32 IO (io), J33 IO_L104N_YY (io), J34 IO_L103N_Y (io), K27 NC, K28 IO_L95N_Y (io), K29 IO_L103P_Y (io), K30 VCCO_2 (power), K31 NC, K33 IO_VREF_L107P_YY (io), K34 IO_L105N_YY (io), L26 IO_L91P_Y (io), L27 IO_L96P_Y (io), L28 NC, L29 IO_VREF_L104P_YY (io), L30 NC, L31 IO_L109P_Y (io), L33 IO_L109N_Y (io), L34 IO_L106N_Y (io), M24 VCCO_2 (power), M25 IO_L90P (io), M26 IO_L97P_Y (io), M27 IO_L102P (io), M28 IO_L105P_YY (io), M30 IO_D2 (io), M31 IO_L111P (io), M32 NC, M33 IO_L110N_Y (io), M34 IO_L108N_Y (io), N23 VCCO_2 (power), N24 VCCO_2 (power), N25 IO_L99P_YY (io), N26 IO (io), N27 IO_L106P_Y (io), N28 NC, N29 IO_VREF_L113P_Y (io), N30 IO_L112P_Y (io), N31 IO_VREF_L119P_YY (io), N32 IO_D3_L119N_YY (io), N33 IO_L113N_Y (io), N34 IO_L114N_YY (io), P23 VCCO_2 (power), P24 VCCO_2 (power), P25 NC, P26 IO_D1_L107N_YY (io), P27 IO_L110P_Y (io), P28 IO_L112N_Y (io), P29 IO_L116P_Y (io), P30 IO_L120P_YY (io), P31 IO_L116N_Y (io), P32 VCCO_2 (power), P33 IO_L117P_Y (io), P34 IO_L115P_YY (io), R23 VCCO_2 (power), R24 VCCO_2 (power), R25 IO_L108P_Y (io), R26 IO_L111N (io), R27 IO_L115N_YY (io), R28 IO_L118N_Y (io), R29 IO_L121P_YY (io), R30 IO_L122P_Y (io), R31 IO_L123N (io), R33 IO_L120N_YY (io), R34 IO_L118P_Y (io), T23 VCCO_2 (power), T24 VCCO_2 (power), T25 IO_L114P_YY (io), T26 IO_L117N_Y (io), T28 IO_L123P (io), T29 IO_L124P_Y (io), T30 IO_L122N_Y (io), T31 IO_VREF_L125P_YY (io), T32 IO_L126N_YY (io), T33 IO_L125N_YY (io), T34 IO_L121N_YY (io), U23 VCCO_2 (power), U24 VCCO_2 (power), U26 NC, U27 IO_L124N_Y (io), U28 IO_L126P_YY (io), U29 IO_VREF_L127P_Y (io), U30 IO (io), U31 IO_L128N_YY (io), U32 NC, U33 IO_L127N_Y (io), U34 IO (io), V33 IO_L128P_YY (io)
part D pins: AA23 VCCO_3 (power), AA24 VCCO_3 (power), AA25 IO_L151P_Y (io), AA26 IO_L147P_Y (io), AA27 IO_L142P_YY (io), AA28 IO_L144P_Y (io), AA29 IO_L142N_YY (io), AA30 IO_L140P_Y (io), AA31 IO_L141N_YY (io), AA32 VCCO_3 (power), AA33 IO_D4_L137P_YY (io), AA34 IO_L136P_YY (io), AB23 VCCO_3 (power), AB24 VCCO_3 (power), AB25 NC, AB26 NC, AB27 IO_D5_L149N_YY (io), AB28 IO_L148N_Y (io), AB29 IO_VREF_L143N_Y (io), AB30 IO_L146P_Y (io), AB31 NC, AB32 IO_L143P_Y (io), AB33 IO_L139N_Y (io), AB34 IO_L138N_Y (io), AC24 VCCO_3 (power), AC25 IO_L160P_Y (io), AC26 IO_L158P_YY (io), AC27 IO_L155P_Y (io), AC28 IO_L154P_Y (io), AC30 IO_VREF_L150N_YY (io), AC31 NC, AC32 IO_L147N_Y (io), AC33 IO_L146N_Y (io), AC34 IO_L144N_Y (io), AD25 IO_L164P_YY (io), AD26 IO_L159P_YY (io), AD27 IO_L162N_Y (io), AD28 IO_L156N_Y (io), AD29 IO_L152N_YY (io), AD30 IO_L157P_YY (io), AD31 IO_L153P_YY (io), AD33 IO_L148P_Y (io), AD34 IO_L145N (io), AE26 IO_L166P_Y (io), AE27 IO_L164N_YY (io), AE28 IO_L161P_Y (io), AE29 IO_L156P_Y (io), AE30 VCCO_3 (power), AE31 IO_L152P_YY (io), AE32 IO_L151N_Y (io), AE33 IO_D6_L150P_YY (io), AE34 IO_L149P_YY (io), AF27 IO_VREF_L168N_Y (io), AF28 IO_L167P (io), AF29 IO_L163P_YY (io), AF30 IO_VREF_L159N_YY (io), AF31 IO_L154N_Y (io), AF32 IO_L155N_Y (io), AF33 IO_VREF_L153N_YY (io), AF34 IO (io), AG29 IO_L169P_Y (io), AG30 IO_L162P_Y (io), AG31 NC, AG32 IO_L157N_YY (io), AG33 NC, AG34 IO (io), AH29 NC, AH30 IO_L170N_Y (io), AH31 IO_VREF_L165N_Y (io), AH32 IO_L160N_Y (io), AH33 IO_L158N_YY (io), AJ30 NC, AJ31 IO_L168P_Y (io), AJ32 IO_L169N_Y (io), AJ33 IO_L165P_Y (io), AJ34 VCCO_3 (power), AK31 IO_INIT_L171N_YY (io), AK32 IO_D7_L171P_YY (io), AK33 IO_L170P_Y (io), AK34 IO_L163N_YY (io), AL32 IO_L167N (io), AL33 IO_L166N_Y (io), AL34 IO_L161N_Y (io), V23 VCCO_3 (power), V24 VCCO_3 (power), V26 IO_L129P_Y (io), V27 NC, V28 IO_L130N_YY (io), V29 IO_L132P_Y (io), V30 IO_VREF_L129N_Y (io), V31 IO (io), V32 NC, V34 IO (io), W23 VCCO_3 (power), W24 VCCO_3 (power), W25 IO_L138P_Y (io), W26 IO_L134P_Y (io), W28 IO_L134N_Y (io), W29 IO_L133P (io), W30 IO_VREF_L131N_YY (io), W31 IO_L136N_YY (io), W32 IO_L131P_YY (io), W33 IO (io), W34 IO_L130P_YY (io), Y23 VCCO_3 (power), Y24 VCCO_3 (power), Y25 IO_L145P (io), Y26 IO_L140N_Y (io), Y27 IO_L141P_YY (io), Y28 IO_L139P_Y (io), Y29 IO_VREF_L137N_YY (io), Y30 IO_L135N_YY (io), Y31 IO_L135P_YY (io), Y33 IO_L133N (io), Y34 IO_L132N_Y (io)
part E pins: AC18 VCCO_4 (power), AC19 VCCO_4 (power), AC20 VCCO_4 (power), AC21 VCCO_4 (power), AC22 VCCO_4 (power), AD18 VCCO_4 (power), AD19 VCCO_4 (power), AD20 VCCO_4 (power), AD21 VCCO_4 (power), AD22 VCCO_4 (power), AD23 VCCO_4 (power), AE19 IO_VREF_L206P_YY (io), AE20 IO_L202N_Y (io), AE21 NC, AE22 IO_L191P_Y (io), AE23 IO_L185P (io), AE24 IO_L179P_YY (io), AF18 IO_L213P_Y (io), AF19 IO_L210P (io), AF20 IO_L204N (io), AF21 IO_L198N_Y (io), AF22 IO_VREF_L193P_YY (io), AF23 IO_L189P_YY (io), AF24 IO_L182N (io), AF25 IO_L177P_YY (io), AG18 IO (io), AG20 IO_L207P_Y (io), AG21 IO_L201P_YY (io), AG22 IO_L195P_Y (io), AG23 IO (io), AG24 IO_L188P (io), AG25 IO_L181P_Y (io), AG26 IO_L176P_Y (io), AH18 GCK0 (in), AH19 IO_L211N_YY (io), AH20 IO_L208P_Y (io), AH21 IO_L203P_Y (io), AH22 IO_L197P_Y (io), AH23 IO_L192N_Y (io), AH24 NC, AH25 NC, AH26 IO_L180N_Y (io), AH27 IO_L174P_Y (io), AJ18 IO_VREF_L214P_Y (io), AJ19 IO_VREF_L212P_YY (io), AJ20 IO_L209N_Y (io), AJ21 IO_L201N_YY (io), AJ22 IO_L199N_YY (io), AJ24 IO_VREF_L190P_YY (io), AJ25 IO_L187N_Y (io), AJ26 IO_L183P_YY (io), AJ27 IO_L180P_Y (io), AJ28 NC, AK18 NC, AK19 NC, AK20 IO_L208N_Y (io), AK21 IO_L205P_YY (io), AK22 IO_VREF_L200P_YY (io), AK23 IO_L194N_YY (io), AK24 IO_L192P_Y (io), AK25 VCCO_4 (power), AK26 IO_VREF_L184P_YY (io), AK27 IO_L181N_Y (io), AK28 IO_L175N_Y (io), AK29 IO_L172N_YY (io), AL18 IO_L214N_Y (io), AL20 IO_L207N_Y (io), AL21 IO_L203N_Y (io), AL22 IO_L199P_YY (io), AL23 IO_L198P_Y (io), AL24 IO_L194P_YY (io), AL25 IO (io), AL26 IO_L186P_Y (io), AL27 NC, AL28 IO_L178N_YY (io), AL29 IO_VREF_L178P_YY (io), AL30 NC, AM18 IO_LVDS_DLL_L215P (io), AM19 IO_L211P_YY (io), AM21 VCCO_4 (power), AM22 IO_L200N_YY (io), AM23 IO_L196N_Y (io), AM25 IO_L191N_Y (io), AM26 IO_L189N_YY (io), AM27 IO_L185N (io), AM28 IO_L182P (io), AM29 IO_L177N_YY (io), AM30 IO_VREF_L175P_Y (io), AN18 IO (io), AN19 IO_L209P_Y (io), AN20 IO_L206N_YY (io), AN21 IO_L204P (io), AN22 NC, AN23 IO_L195N_Y (io), AN24 NC, AN25 IO_L190N_YY (io), AN26 IO_L187P_Y (io), AN27 IO_L184N_YY (io), AN28 IO_L179N_YY (io), AN29 IO_L176N_Y (io), AN30 IO_L174N_Y (io), AN31 IO_L173N_Y (io), AP17 IO_L213N_Y (io), AP18 IO_L212N_YY (io), AP19 IO_L210N (io), AP20 IO_L205N_YY (io), AP21 IO_L202P_Y (io), AP22 IO_L197N_Y (io), AP23 IO_L196P_Y (io), AP24 IO_L193N_YY (io), AP25 IO_L188N (io), AP26 IO_L186N_Y (io), AP27 IO_L183N_YY (io), AP29 VCCO_4 (power), AP30 IO_L173P_Y (io), AP31 IO_L172P_YY (io)
part F pins: AC13 VCCO_5 (power), AC14 VCCO_5 (power), AC15 VCCO_5 (power), AC16 VCCO_5 (power), AC17 VCCO_5 (power), AD12 VCCO_5 (power), AD13 VCCO_5 (power), AD14 VCCO_5 (power), AD15 VCCO_5 (power), AD16 VCCO_5 (power), AD17 VCCO_5 (power), AE11 IO_L253P_YY (io), AE12 IO_L248P (io), AE13 IO_L241P_YY (io), AE14 IO_L229P_YY (io), AE15 IO_L229N_YY (io), AE16 IO_L223N_Y (io), AF10 IO_L254P_Y (io), AF11 IO_L244P_Y (io), AF12 IO_L242P (io), AF13 IO_L233P_Y (io), AF14 IO_L234P_Y (io), AF15 IO_L227N_Y (io), AF16 IO_L222N_Y (io), AF17 NC, AG9 IO_VREF_L255N_Y (io), AG10 IO_L250P_Y (io), AG11 IO_L245N_Y (io), AG12 NC, AG13 IO_VREF_L230N_YY (io), AG14 IO_L228P_Y (io), AG15 IO_L226N (io), AG17 IO_L217N_Y (io), AH8 IO_L256P_Y (io), AH9 IO_L251N_YY (io), AH10 IO_L247P_YY (io), AH11 IO_L243N_Y (io), AH12 IO (io), AH13 IO_L235N_Y (io), AH14 IO_L231P_YY (io), AH15 IO_L225P_YY (io), AH16 IO_L221N_Y (io), AH17 IO_L216P_Y (io), AJ7 IO_L257N_Y (io), AJ8 IO_VREF_L252N_YY (io), AJ9 IO_L248N (io), AJ10 NC, AJ11 NC, AJ13 IO_L237P_YY (io), AJ14 IO_L232P_Y (io), AJ15 IO_VREF_L224N_YY (io), AJ16 IO_L219P_YY (io), AJ17 IO_L217P_Y (io), AK6 IO_L258N_YY (io), AK7 NC, AK8 IO_L251P_YY (io), AK9 IO_VREF_L246N_YY (io), AK10 VCCO_5 (power), AK11 IO_L239N_Y (io), AK12 IO_L238P_Y (io), AK13 NC, AK14 IO_L226P (io), AK15 IO_L224P_YY (io), AK16 IO_L220P (io), AL6 IO_L255P_Y (io), AL7 IO_L249N_Y (io), AL8 IO_L246P_YY (io), AL9 IO_L243P_Y (io), AL10 IO_VREF_L240N_YY (io), AL11 IO_L240P_YY (io), AL12 IO_L236N_YY (io), AL13 NC, AL14 IO_L232N_Y (io), AL15 IO_L221P_Y (io), AL16 IO_VREF_L218N_YY (io), AL17 IO_LVDS_DLL_L215N (io), AL19 GCK1 (in), AM4 NC, AM5 IO_L258P_YY (io), AM6 IO_L254N_Y (io), AM7 IO_L249P_Y (io), AM8 IO_L245P_Y (io), AM9 IO_L241N_YY (io), AM10 IO_L238N_Y (io), AM12 IO_L236P_YY (io), AM13 IO_L227P_Y (io), AM14 VCCO_5 (power), AM16 IO_L219N_YY (io), AM17 IO_VREF_L216N_Y (io), AN4 IO_L257P_Y (io), AN5 IO_L253N_YY (io), AN6 IO_L250N_Y (io), AN7 IO_L247N_YY (io), AN8 IO_L244N_Y (io), AN9 IO (io), AN10 NC, AN11 IO_L235P_Y (io), AN12 IO_L233N_Y (io), AN13 IO_L230P_YY (io), AN14 IO_L225N_YY (io), AN15 IO_L222P_Y (io), AN16 IO (io), AN17 NC, AP4 IO_L256N_Y (io), AP5 IO_L252P_YY (io), AP6 VCCO_5 (power), AP8 IO_L242N (io), AP9 IO_L239P_Y (io), AP10 IO_VREF_L237N_YY (io), AP11 IO_L234N_Y (io), AP12 IO_L231N_YY (io), AP13 IO_L228N_Y (io), AP14 IO_L223P_Y (io), AP15 IO_L220N (io), AP16 IO_L218P_YY (io)
part G pins: AA1 IO_L287P_Y (io), AA2 IO_L289N_YY (io), AA3 VCCO_6 (power), AA4 IO_VREF_L287N_Y (io), AA5 IO_L290P_Y (io), AA6 IO_L290N_Y (io), AA7 IO_L286P_Y (io), AA8 IO_L284N_Y (io), AA9 IO_L282N_Y (io), AA10 NC, AA11 VCCO_6 (power), AA12 VCCO_6 (power), AB1 IO_L285N (io), AB2 IO_L286N_Y (io), AB3 IO_L291N_Y (io), AB4 IO_L288P_YY (io), AB5 NC, AB6 IO_L284P_Y (io), AB7 NC, AB8 IO_VREF_L280N_YY (io), AB9 NC, AB10 IO_L275N (io), AB11 VCCO_6 (power), AB12 VCCO_6 (power), AC1 IO_L280P_YY (io), AC2 IO_L281P_YY (io), AC3 IO_L282P_Y (io), AC4 IO_L283N_Y (io), AC5 IO_L281N_YY (io), AC7 IO_L278N_YY (io), AC8 IO_L276N_Y (io), AC9 IO_L272N_YY (io), AC10 IO_L267N_YY (io), AC11 VCCO_6 (power), AD1 IO_L278P_YY (io), AD2 IO_L279P_Y (io), AD4 IO_L283P_Y (io), AD5 IO_VREF_L277N_YY (io), AD6 IO_L279N_Y (io), AD7 NC, AD8 NC, AD9 IO_L266N_YY (io), AD10 IO_L261N_Y (io), AE1 IO_L276P_Y (io), AE2 IO (io), AE3 IO_L277P_YY (io), AE4 IO (io), AE5 VCCO_6 (power), AE6 IO_L273N_YY (io), AE7 IO_L270N_Y (io), AE8 IO_L269N_Y (io), AE9 IO_L260N_Y (io), AF1 IO_L274N_Y (io), AF2 IO_L275P (io), AF3 IO_L273P_YY (io), AF4 IO_L274P_Y (io), AF5 IO_L268P_Y (io), AF6 IO_VREF_L271N_YY (io), AF7 IO_L264N_Y (io), AF8 IO_L259P_YY (io), AG1 IO_L271P_YY (io), AG2 IO_L270P_Y (io), AG3 IO_L269P_Y (io), AG4 IO_L272P_YY (io), AG5 IO_L265P_Y (io), AG6 IO_L263N (io), AH2 IO_L267P_YY (io), AH3 IO_L268N_Y (io), AH4 IO_L262P_Y (io), AH5 NC, AH6 IO_L259N_YY (io), AJ1 VCCO_6 (power), AJ2 IO_L266P_YY (io), AJ3 IO_VREF_L265N_Y (io), AJ4 NC, AK1 IO_L263P (io), AK2 IO_L264P_Y (io), AK3 IO_L260P_Y (io), AL1 IO_VREF_L262N_Y (io), AL2 IO_L261P_Y (io), T1 IO (io), U1 IO_L301P_Y (io), U2 IO_L300P_YY (io), V1 IO_L299P_YY (io), V2 IO (io), V3 IO (io), V5 NC, V6 IO_VREF_L301N_Y (io), V7 IO_L300N_YY (io), V8 NC, V9 IO_L298N_Y (io), V11 VCCO_6 (power), V12 VCCO_6 (power), W1 IO_L296N_Y (io), W2 IO_L294P_YY (io), W3 IO_L297P_Y (io), W4 IO_L298P_Y (io), W5 IO_VREF_L299N_YY (io), W6 IO_L297N_Y (io), W7 IO_L295N_YY (io), W9 IO_L294N_YY (io), W10 IO_L292P_Y (io), W11 VCCO_6 (power), W12 VCCO_6 (power), Y1 IO_L292N_Y (io), Y2 IO_L293P_YY (io), Y4 IO_L295P_YY (io), Y5 IO_VREF_L293N_YY (io), Y6 IO_L296P_Y (io), Y7 IO_L291P_Y (io), Y8 IO_L289P_YY (io), Y9 IO_L288N_YY (io), Y10 IO_L285P (io), Y11 VCCO_6 (power), Y12 VCCO_6 (power)
part H pins: D1 IO_L340P (io), D2 IO_L342P_Y (io), D3 IO_L343P_Y (io), E1 IO_L338N_Y (io), E2 IO_L339P_Y (io), E3 IO_L341N_Y (io), E4 IO_L342N_Y (io), F1 VCCO_7 (power), F2 IO_L336P_YY (io), F3 IO_L337N_YY (io), F4 IO_L343N_Y (io), F5 IO (io), G2 IO_L330P_YY (io), G3 IO_L332N_YY (io), G4 IO_L335N_Y (io), G5 IO_L339N_Y (io), G6 NC, H1 IO (io), H2 IO_L328P_Y (io), H3 IO_L331N_YY (io), H4 IO_L334P_Y (io), H5 IO_L333P_Y (io), H6 IO_VREF_L338P_Y_Y (io), H7 NC, J1 IO_L325N_YY (io), J2 IO_L326N_YY (io), J3 IO_L327P_Y (io), J4 IO_L329N_Y (io), J5 IO_VREF_L332P_YY (io), J6 IO_L334N_Y (io), J7 IO_L336N_YY (io), J8 IO_VREF_L341P_Y (io), K1 IO_VREF_L323P_YY (io), K2 NC, K3 IO_VREF_L326P_YY (io), K4 NC, K5 VCCO_7 (power), K6 IO_L329P_Y (io), K7 IO_L331P_YY (io), K8 IO_L335P_Y (io), K9 IO_L340N (io), L1 IO_L321N_Y (io), L2 IO_L322N_YY (io), L4 IO_L324P_Y (io), L5 IO_L325P_YY (io), L6 NC, L7 IO_L327N_Y (io), L8 IO_L330N_YY (io), L9 IO_L333N_Y (io), L10 IO_L337P_YY (io), M1 IO_L316N_Y (io), M2 IO_L318P (io), M3 IO_L319P_Y (io), M4 IO_L320P_Y (io), M5 NC, M7 IO_L323N_YY (io), M8 IO_L324N_Y (io), M9 IO_L328N_Y (io), M10 NC, M11 VCCO_7 (power), N1 IO_L312P_Y (io), N2 IO_L314P_YY (io), N3 IO_L317P_Y (io), N4 IO_VREF_L316P_Y (io), N5 NC, N6 IO_L317N_Y (io), N7 IO_L319N_Y (io), N8 IO_L321P_Y (io), N9 IO_L322P_YY (io), N10 IO (io), N11 VCCO_7 (power), N12 VCCO_7 (power), P1 IO_L310N_YY (io), P2 IO_L311P_Y (io), P3 VCCO_7 (power), P4 IO_L313N_Y (io), P5 IO_VREF_L310P_YY (io), P6 IO_L315N_YY (io), P7 IO_L315P_YY (io), P8 IO_L314N_YY (io), P9 IO_L318N (io), P10 IO_L320N_Y (io), P11 VCCO_7 (power), P12 VCCO_7 (power), R1 IO_L307P_Y (io), R2 IO_L309N_YY (io), R5 IO_L309P_YY (io), R6 IO_L308N_Y (io), R7 IO (io), R8 IO_L311N_Y (io), R9 IO_L312N_Y (io), R10 IO_L313P_Y (io), R11 VCCO_7 (power), R12 VCCO_7 (power), T2 IO (io), T3 IO_L305N_YY (io), T4 IO_L306P_Y (io), T5 IO_L307N_Y (io), T6 IO_VREF_L305P_YY (io), T7 NC, T9 IO_L306N_Y (io), T10 IO_L308P_Y (io), T11 VCCO_7 (power), T12 VCCO_7 (power), U3 IO_L304N_YY (io), U4 IO_L302P_YY (io), U5 IO_VREF_L303P_Y (io), U6 IO_L304P_YY (io), U7 IO_L303N_Y (io), U8 IO (io), U9 IO_L302N_YY (io), U11 VCCO_7 (power), U12 VCCO_7 (power), V4 NC
part I pins: A3 GND (power), A28 GND (power), A32 GND (power), A33 GND (power), AA13 VCCINT (power), AA14 GND (power), AA19 GND (power), AA22 VCCINT (power), AB13 VCCINT (power), AB14 VCCINT (power), AB15 VCCINT (power), AB16 VCCINT (power), AB19 VCCINT (power), AB20 VCCINT (power), AB21 VCCINT (power), AB22 VCCINT (power), AC12 VCCINT (power), AC23 VCCINT (power), AC29 GND (power), AD3 GND (power), AD11 VCCINT (power), AD24 VCCINT (power), AE10 VCCINT (power), AE17 VCCINT (power), AE18 VCCINT (power), AE25 VCCINT (power), AG7 M1 (in), AG8 GND (power), AG16 GND (power), AG28 PROGRAM (in), AH7 GND (power), AJ5 DXN, AJ6 GND (power), AJ12 GND (power), AK4 M0 (in), AK30 GND (power), AL3 M2 (in), AL5 DXP, AL31 GND (power), AM3 GND (power), AM20 GND (power), AM24 GND (power), AM31 DONE (io), AM32 GND (power), AN3 GND (power), AN32 GND (power), AN33 GND (power), AP2 GND (power), AP3 GND (power), AP7 GND (power), AP34 GND (power), B3 GND (power), B32 GND (power), C1 GND (power), C4 TMS (in), C11 GND (power), C15 GND (power), C30 TDI (in), C31 CCLK (io), C34 GND (power), D5 TCK (in), E5 GND (power), F6 GND (power), F29 GND (power), H19 GND (power), H27 GND (power), J26 GND (power), K10 VCCINT (power), K17 VCCINT (power), K18 VCCINT (power), K25 VCCINT (power), K26 TDO (out), L11 VCCINT (power), L24 VCCINT (power), M6 GND (power), M12 VCCINT (power), M23 VCCINT (power), N13 VCCINT (power), N14 VCCINT (power), N15 VCCINT (power), N16 VCCINT (power), N19 VCCINT (power), N20 VCCINT (power), N21 VCCINT (power), N22 VCCINT (power), P13 VCCINT (power), P15 GND (power), P18 GND (power), P21 GND (power), P22 VCCINT (power), R3 GND (power), R13 VCCINT (power), R15 GND (power), R18 GND (power), R21 GND (power), R22 VCCINT (power), R32 GND (power), T8 GND (power), T13 VCCINT (power), T14 GND (power), T16 GND (power), T19 GND (power), T22 VCCINT (power), T27 GND (power), U10 VCCINT (power), U14 GND (power), U16 GND (power), U19 GND (power), U25 VCCINT (power), V10 VCCINT (power), V15 GND (power), V18 GND (power), V21 GND (power), V25 VCCINT (power), W8 GND (power), W13 VCCINT (power), W18 GND (power), W21 GND (power), W22 VCCINT (power), W27 GND (power), Y3 GND (power), Y13 VCCINT (power), Y14 GND (power), Y19 GND (power), Y22 VCCINT (power), Y32 GND (power)
part J pins: A1 GND (power), A2 GND (power), A7 GND (power), A34 GND (power), AA15 GND (power), AA16 GND (power), AA17 GND (power), AA18 GND (power), AA20 GND (power), AA21 GND (power), AB17 GND (power), AB18 GND (power), AC6 GND (power), AD32 GND (power), AF9 GND (power), AF26 GND (power), AG19 GND (power), AG27 GND (power), AH1 GND (power), AH28 GND (power), AH34 GND (power), AJ23 GND (power), AJ29 GND (power), AK5 GND (power), AK17 GND (power), AL4 GND (power), AM1 GND (power), AM2 GND (power), AM11 GND (power), AM15 GND (power), AM33 GND (power), AM34 GND (power), AN1 GND (power), AN2 GND (power), AN34 GND (power), AP1 GND (power), AP28 GND (power), AP32 GND (power), AP33 GND (power), B1 GND (power), B2 GND (power), B33 GND (power), B34 GND (power), C2 GND (power), C3 GND (power), C20 GND (power), C24 GND (power), C32 GND (power), C33 GND (power), D4 GND (power), D31 GND (power), E18 GND (power), E30 GND (power), F12 GND (power), F23 GND (power), G1 GND (power), G7 GND (power), G28 GND (power), G34 GND (power), H8 GND (power), H16 GND (power), J9 GND (power), K32 GND (power), L3 GND (power), L32 GND (power), M29 GND (power), N17 GND (power), N18 GND (power), P14 GND (power), P16 GND (power), P17 GND (power), P19 GND (power), P20 GND (power), R4 GND (power), R14 GND (power), R16 GND (power), R17 GND (power), R19 GND (power), R20 GND (power), T15 GND (power), T17 GND (power), T18 GND (power), T20 GND (power), T21 GND (power), U13 GND (power), U15 GND (power), U17 GND (power), U18 GND (power), U20 GND (power), U21 GND (power), U22 GND (power), V13 GND (power), V14 GND (power), V16 GND (power), V17 GND (power), V19 GND (power), V20 GND (power), V22 GND (power), W14 GND (power), W15 GND (power), W16 GND (power), W17 GND (power), W19 GND (power), W20 GND (power), Y15 GND (power), Y16 GND (power), Y17 GND (power), Y18 GND (power), Y20 GND (power), Y21 GND (power)
part A text: Bank 0
part B text: Bank 1
part C text: Bank 2
part D text: Bank 3
part E text: Bank 4
part F text: Bank 5
part G text: Bank 6
part H text: Bank 7